# EAGLE library part 6PIN-0.1-JUMPER-SOLDER-NO (library ClintonLib)
6-Pin .1" Jumper Header with normally open solder pad link on top
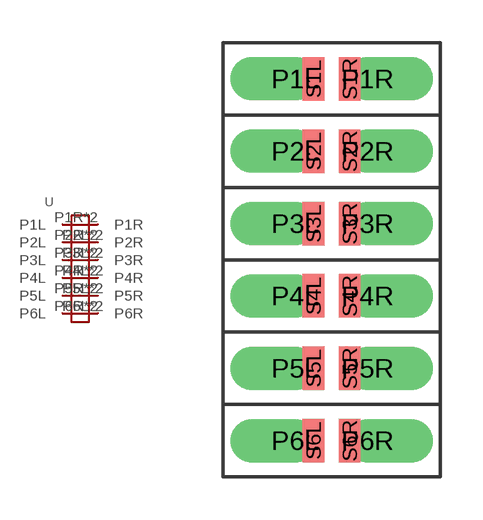
[diagram p15: symbol with the pads of 6PIN-0.1-JUMPER-SOLDER-NO; footprint 6PIN-0.1-JUMPER-SOLDER-NO]

Designator prefix -

## 6PIN-0.1-JUMPER-SOLDER-NO  [6PIN-0.1-JUMPER-SOLDER-NO]
P1L  P1L
P1R  P1R
P2L  P2L
P2R  P2R
P3L  P3L
P3R  P3R
P4L  P4L
P4R  P4R
P5L  P5L
P5R  P5R
P6L  P6L
P6R  P6R
S1L  P1L
S1R  P1R
S2L  P2L
S2R  P2R
S3L  P3L
S3R  P3R
S4L  P4L
S4R  P4R
S5L  P5L
S5R  P5R
S6L  P6L
S6R  P6R

## Footprint 6PIN-0.1-JUMPER-SOLDER-NO (pad centres in mm)
drill 1.016 offset: P1L -1.27,6.35; P1R 1.27,6.35; P2L -1.27,3.81; P2R 1.27,3.81; P3L -1.27,1.27; P3R 1.27,1.27; P4L -1.27,-1.27; P4R 1.27,-1.27; P5L -1.27,-3.81; P5R 1.27,-3.81; P6L -1.27,-6.35; P6R 1.27,-6.35
smd 0.762 x 1.524: S1L -0.635,6.35; S1R 0.635,6.35; S2L -0.635,3.81; S2R 0.635,3.81; S3L -0.635,1.27; S3R 0.635,1.27; S4L -0.635,-1.27; S4R 0.635,-1.27; S5L -0.635,-3.81; S5R 0.635,-3.81; S6L -0.635,-6.35; S6R 0.635,-6.35